# EAGLE library part AD22151 (library AD22151)
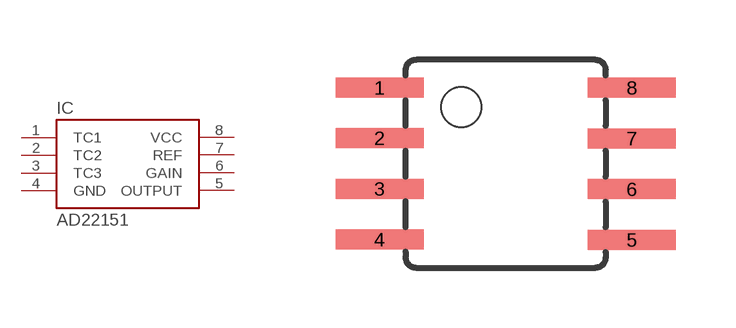
[diagram p0: symbol with the pads of SOIC8; footprint SOIC8]

Designator prefix IC

## AD22151  [SOIC8]
1  TC1  pas
2  TC2  pas
3  TC3  pas
4  GND  pwr
5  OUTPUT  pas
6  GAIN  pas
7  REF  pas
8  VCC  pwr

## Footprint SOIC8 (pad centres in mm)
Wide Plastic Gull Wing Small Outline Package
smd 2.2 x 0.5: 1 -3.154,1.905; 2 -3.154,0.645; 3 -3.154,-0.625; 4 -3.154,-1.895; 5 3.154,-1.905; 6 3.154,-0.635; 7 3.154,0.635; 8 3.154,1.905